# Altium footprint library QFP_Shrink_Rect_30P_Side_N.PcbLib: 12 footprints
Each footprint in its own frame and in the unit in brackets; x right, y up, seen from the top. Pads: shape width x height; smd on the part's side, far side on the other; paste and mask are expansions set on the pad; w line width, h text height; cw(c..) or ccw(c..) is an arc to the next point about the centre after c.
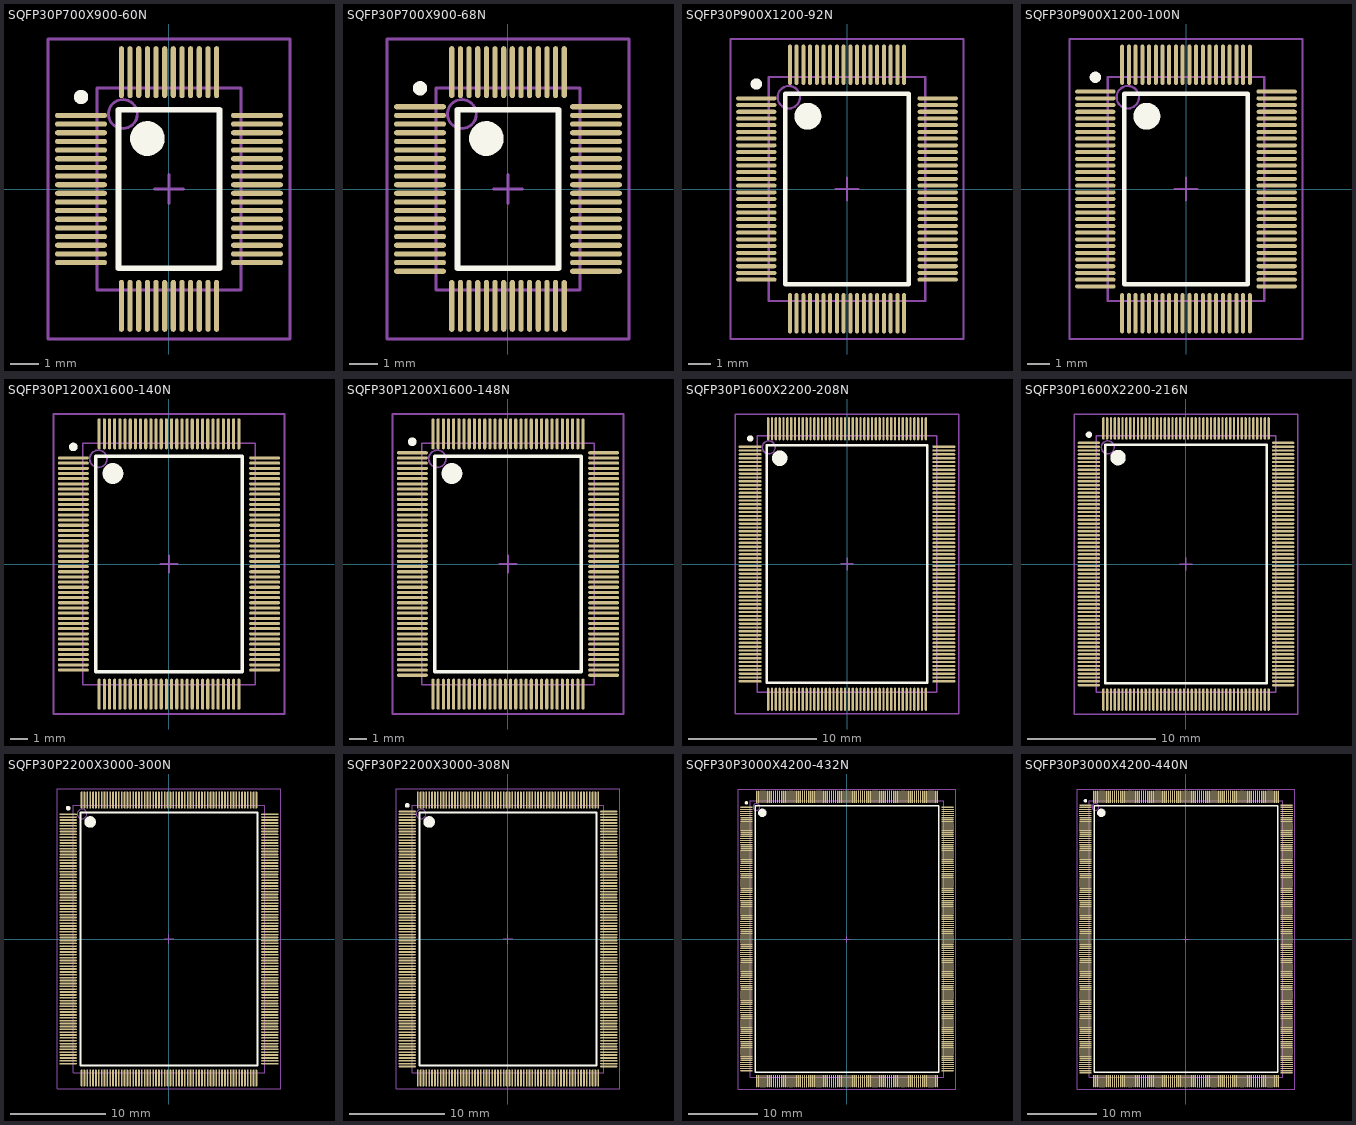
[diagram p0: the footprints below, top view; thin cyan lines are the x and y axes]

## SQFP30P700X900-60N [mm] "Shrink QFP, 60-Leads, Body 7x5 mm, Pitch 0.3mm, IPC Medium Density"
height 1.7
pads (60):
  oval 1.8x0.18 smd: 1(-3.05,2.55) 2(-3.05,2.25) 3(-3.05,1.95) 4(-3.05,1.65) 5(-3.05,1.35) 6(-3.05,1.05) 7(-3.05,0.75) 8(-3.05,0.45) 9(-3.05,0.15) 10(-3.05,-0.15) 11(-3.05,-0.45) 12(-3.05,-0.75) 13(-3.05,-1.05) 14(-3.05,-1.35) 15(-3.05,-1.65) 16(-3.05,-1.95) 17(-3.05,-2.25) 18(-3.05,-2.55) 31(3.05,-2.55) 32(3.05,-2.25) 33(3.05,-1.95) 34(3.05,-1.65) 35(3.05,-1.35) 36(3.05,-1.05) 37(3.05,-0.75) 38(3.05,-0.45) 39(3.05,-0.15) 40(3.05,0.15) 41(3.05,0.45) 42(3.05,0.75) 43(3.05,1.05) 44(3.05,1.35) 45(3.05,1.65) 46(3.05,1.95) 47(3.05,2.25) 48(3.05,2.55)
  oval 0.18x1.8 smd: 19(-1.65,-4.05) 20(-1.35,-4.05) 21(-1.05,-4.05) 22(-0.75,-4.05) 23(-0.45,-4.05) 24(-0.15,-4.05) 25(0.15,-4.05) 26(0.45,-4.05) 27(0.75,-4.05) 28(1.05,-4.05) 29(1.35,-4.05) 30(1.65,-4.05) 49(1.65,4.05) 50(1.35,4.05) 51(1.05,4.05) 52(0.75,4.05) 53(0.45,4.05) 54(0.15,4.05) 55(-0.15,4.05) 56(-0.45,4.05) 57(-0.75,4.05) 58(-1.05,4.05) 59(-1.35,4.05) 60(-1.65,4.05)
Top Overlay:
  circle w0.25: c-3.05,3.19 r0.125
  circle w0.6: c-0.75,1.75 r0.3
  lines w0.2: -1.75,-2.75 -1.75,2.75 1.75,2.75 1.75,-2.75 -1.75,-2.75
Mechanical 13:
  circle w0.1: c-1.6,2.6 r0.5
  lines w0.1: -2.5,-3.5 -2.5,3.5 2.5,3.5 2.5,-3.5 -2.5,-3.5
Mechanical 15:
  lines w0.1: -0.5,0 0.5,0 ; 0,-0.5 0,0.5 ; -4.2,-5.2 -4.2,5.2 4.2,5.2 4.2,-5.2 -4.2,-5.2
3D body: height 1.7, standoff 0, extent -2.5,-3.5 2.5,3.5

## SQFP30P700X900-68N [mm] "Shrink QFP, 68-Leads, Body 7x5 mm, Pitch 0.3mm, IPC Medium Density"
height 1.7
pads (68):
  oval 1.8x0.18 smd: 1(-3.05,2.85) 2(-3.05,2.55) 3(-3.05,2.25) 4(-3.05,1.95) 5(-3.05,1.65) 6(-3.05,1.35) 7(-3.05,1.05) 8(-3.05,0.75) 9(-3.05,0.45) 10(-3.05,0.15) 11(-3.05,-0.15) 12(-3.05,-0.45) 13(-3.05,-0.75) 14(-3.05,-1.05) 15(-3.05,-1.35) 16(-3.05,-1.65) 17(-3.05,-1.95) 18(-3.05,-2.25) 19(-3.05,-2.55) 20(-3.05,-2.85) 35(3.05,-2.85) 36(3.05,-2.55) 37(3.05,-2.25) 38(3.05,-1.95) 39(3.05,-1.65) 40(3.05,-1.35) 41(3.05,-1.05) 42(3.05,-0.75) 43(3.05,-0.45) 44(3.05,-0.15) 45(3.05,0.15) 46(3.05,0.45) 47(3.05,0.75) 48(3.05,1.05) 49(3.05,1.35) 50(3.05,1.65) 51(3.05,1.95) 52(3.05,2.25) 53(3.05,2.55) 54(3.05,2.85)
  oval 0.18x1.8 smd: 21(-1.95,-4.05) 22(-1.65,-4.05) 23(-1.35,-4.05) 24(-1.05,-4.05) 25(-0.75,-4.05) 26(-0.45,-4.05) 27(-0.15,-4.05) 28(0.15,-4.05) 29(0.45,-4.05) 30(0.75,-4.05) 31(1.05,-4.05) 32(1.35,-4.05) 33(1.65,-4.05) 34(1.95,-4.05) 55(1.95,4.05) 56(1.65,4.05) 57(1.35,4.05) 58(1.05,4.05) 59(0.75,4.05) 60(0.45,4.05) 61(0.15,4.05) 62(-0.15,4.05) 63(-0.45,4.05) 64(-0.75,4.05) 65(-1.05,4.05) 66(-1.35,4.05) 67(-1.65,4.05) 68(-1.95,4.05)
Top Overlay:
  circle w0.25: c-3.05,3.49 r0.125
  circle w0.6: c-0.75,1.75 r0.3
  lines w0.2: -1.75,-2.75 -1.75,2.75 1.75,2.75 1.75,-2.75 -1.75,-2.75
Mechanical 13:
  circle w0.1: c-1.6,2.6 r0.5
  lines w0.1: -2.5,-3.5 -2.5,3.5 2.5,3.5 2.5,-3.5 -2.5,-3.5
Mechanical 15:
  lines w0.1: -0.5,0 0.5,0 ; 0,-0.5 0,0.5 ; -4.2,-5.2 -4.2,5.2 4.2,5.2 4.2,-5.2 -4.2,-5.2
3D body: height 1.7, standoff 0, extent -2.5,-3.5 2.5,3.5

## SQFP30P900X1200-92N [mm] "Shrink QFP, 92-Leads, Body 10x7 mm, Pitch 0.3mm, IPC Medium Density"
height 2.2
pads (92):
  oval 1.8x0.18 smd: 1(-4.05,4.05) 2(-4.05,3.75) 3(-4.05,3.45) 4(-4.05,3.15) 5(-4.05,2.85) 6(-4.05,2.55) 7(-4.05,2.25) 8(-4.05,1.95) 9(-4.05,1.65) 10(-4.05,1.35) 11(-4.05,1.05) 12(-4.05,0.75) 13(-4.05,0.45) 14(-4.05,0.15) 15(-4.05,-0.15) 16(-4.05,-0.45) 17(-4.05,-0.75) 18(-4.05,-1.05) 19(-4.05,-1.35) 20(-4.05,-1.65) 21(-4.05,-1.95) 22(-4.05,-2.25) 23(-4.05,-2.55) 24(-4.05,-2.85) 25(-4.05,-3.15) 26(-4.05,-3.45) 27(-4.05,-3.75) 28(-4.05,-4.05) 47(4.05,-4.05) 48(4.05,-3.75) 49(4.05,-3.45) 50(4.05,-3.15) 51(4.05,-2.85) 52(4.05,-2.55) 53(4.05,-2.25) 54(4.05,-1.95) 55(4.05,-1.65) 56(4.05,-1.35) 57(4.05,-1.05) 58(4.05,-0.75) 59(4.05,-0.45) 60(4.05,-0.15) 61(4.05,0.15) 62(4.05,0.45) 63(4.05,0.75) 64(4.05,1.05) 65(4.05,1.35) 66(4.05,1.65) 67(4.05,1.95) 68(4.05,2.25) 69(4.05,2.55) 70(4.05,2.85) 71(4.05,3.15) 72(4.05,3.45) 73(4.05,3.75) 74(4.05,4.05)
  oval 0.18x1.8 smd: 29(-2.55,-5.55) 30(-2.25,-5.55) 31(-1.95,-5.55) 32(-1.65,-5.55) 33(-1.35,-5.55) 34(-1.05,-5.55) 35(-0.75,-5.55) 36(-0.45,-5.55) 37(-0.15,-5.55) 38(0.15,-5.55) 39(0.45,-5.55) 40(0.75,-5.55) 41(1.05,-5.55) 42(1.35,-5.55) 43(1.65,-5.55) 44(1.95,-5.55) 45(2.25,-5.55) 46(2.55,-5.55) 75(2.55,5.55) 76(2.25,5.55) 77(1.95,5.55) 78(1.65,5.55) 79(1.35,5.55) 80(1.05,5.55) 81(0.75,5.55) 82(0.45,5.55) 83(0.15,5.55) 84(-0.15,5.55) 85(-0.45,5.55) 86(-0.75,5.55) 87(-1.05,5.55) 88(-1.35,5.55) 89(-1.65,5.55) 90(-1.95,5.55) 91(-2.25,5.55) 92(-2.55,5.55)
Top Overlay:
  circle w0.25: c-4.05,4.69 r0.125
  circle w0.6: c-1.75,3.25 r0.3
  lines w0.2: -2.75,-4.25 -2.75,4.25 2.75,4.25 2.75,-4.25 -2.75,-4.25
Mechanical 13:
  circle w0.1: c-2.6,4.1 r0.5
  lines w0.1: -3.5,-5 -3.5,5 3.5,5 3.5,-5 -3.5,-5
Mechanical 15:
  lines w0.1: -0.5,0 0.5,0 ; 0,-0.5 0,0.5 ; -5.2,-6.7 -5.2,6.7 5.2,6.7 5.2,-6.7 -5.2,-6.7
3D body: height 2.2, standoff 0, extent -3.5,-5 3.5,5

## SQFP30P900X1200-100N [mm] "Shrink QFP, 100-Leads, Body 10x7 mm, Pitch 0.3mm, IPC Medium Density"
height 2.2
pads (100):
  oval 1.8x0.18 smd: 1(-4.05,4.35) 2(-4.05,4.05) 3(-4.05,3.75) 4(-4.05,3.45) 5(-4.05,3.15) 6(-4.05,2.85) 7(-4.05,2.55) 8(-4.05,2.25) 9(-4.05,1.95) 10(-4.05,1.65) 11(-4.05,1.35) 12(-4.05,1.05) 13(-4.05,0.75) 14(-4.05,0.45) 15(-4.05,0.15) 16(-4.05,-0.15) 17(-4.05,-0.45) 18(-4.05,-0.75) 19(-4.05,-1.05) 20(-4.05,-1.35) 21(-4.05,-1.65) 22(-4.05,-1.95) 23(-4.05,-2.25) 24(-4.05,-2.55) 25(-4.05,-2.85) 26(-4.05,-3.15) 27(-4.05,-3.45) 28(-4.05,-3.75) 29(-4.05,-4.05) 30(-4.05,-4.35) 51(4.05,-4.35) 52(4.05,-4.05) 53(4.05,-3.75) 54(4.05,-3.45) 55(4.05,-3.15) 56(4.05,-2.85) 57(4.05,-2.55) 58(4.05,-2.25) 59(4.05,-1.95) 60(4.05,-1.65) 61(4.05,-1.35) 62(4.05,-1.05) 63(4.05,-0.75) 64(4.05,-0.45) 65(4.05,-0.15) 66(4.05,0.15) 67(4.05,0.45) 68(4.05,0.75) 69(4.05,1.05) 70(4.05,1.35) 71(4.05,1.65) 72(4.05,1.95) 73(4.05,2.25) 74(4.05,2.55) 75(4.05,2.85) 76(4.05,3.15) 77(4.05,3.45) 78(4.05,3.75) 79(4.05,4.05) 80(4.05,4.35)
  oval 0.18x1.8 smd: 31(-2.85,-5.55) 32(-2.55,-5.55) 33(-2.25,-5.55) 34(-1.95,-5.55) 35(-1.65,-5.55) 36(-1.35,-5.55) 37(-1.05,-5.55) 38(-0.75,-5.55) 39(-0.45,-5.55) 40(-0.15,-5.55) 41(0.15,-5.55) 42(0.45,-5.55) 43(0.75,-5.55) 44(1.05,-5.55) 45(1.35,-5.55) 46(1.65,-5.55) 47(1.95,-5.55) 48(2.25,-5.55) 49(2.55,-5.55) 50(2.85,-5.55) 81(2.85,5.55) 82(2.55,5.55) 83(2.25,5.55) 84(1.95,5.55) 85(1.65,5.55) 86(1.35,5.55) 87(1.05,5.55) 88(0.75,5.55) 89(0.45,5.55) 90(0.15,5.55) 91(-0.15,5.55) 92(-0.45,5.55) 93(-0.75,5.55) 94(-1.05,5.55) 95(-1.35,5.55) 96(-1.65,5.55) 97(-1.95,5.55) 98(-2.25,5.55) 99(-2.55,5.55) 100(-2.85,5.55)
Top Overlay:
  circle w0.25: c-4.05,4.99 r0.125
  circle w0.6: c-1.75,3.25 r0.3
  lines w0.2: -2.75,-4.25 -2.75,4.25 2.75,4.25 2.75,-4.25 -2.75,-4.25
Mechanical 13:
  circle w0.1: c-2.6,4.1 r0.5
  lines w0.1: -3.5,-5 -3.5,5 3.5,5 3.5,-5 -3.5,-5
Mechanical 15:
  lines w0.1: -0.5,0 0.5,0 ; 0,-0.5 0,0.5 ; -5.2,-6.7 -5.2,6.7 5.2,6.7 5.2,-6.7 -5.2,-6.7
3D body: height 2.2, standoff 0, extent -3.5,-5 3.5,5

## SQFP30P1200X1600-140N [mm] "Shrink QFP, 140-Leads, Body 14x10 mm, Pitch 0.3mm, IPC Medium Density"
height 2.2
pads (140):
  oval 1.8x0.18 smd: 1(-5.55,6.15) 2(-5.55,5.85) 3(-5.55,5.55) 4(-5.55,5.25) 5(-5.55,4.95) 6(-5.55,4.65) 7(-5.55,4.35) 8(-5.55,4.05) 9(-5.55,3.75) 10(-5.55,3.45) 11(-5.55,3.15) 12(-5.55,2.85) 13(-5.55,2.55) 14(-5.55,2.25) 15(-5.55,1.95) 16(-5.55,1.65) 17(-5.55,1.35) 18(-5.55,1.05) 19(-5.55,0.75) 20(-5.55,0.45) 21(-5.55,0.15) 22(-5.55,-0.15) 23(-5.55,-0.45) 24(-5.55,-0.75) 25(-5.55,-1.05) 26(-5.55,-1.35) 27(-5.55,-1.65) 28(-5.55,-1.95) 29(-5.55,-2.25) 30(-5.55,-2.55) 31(-5.55,-2.85) 32(-5.55,-3.15) 33(-5.55,-3.45) 34(-5.55,-3.75) 35(-5.55,-4.05) 36(-5.55,-4.35) 37(-5.55,-4.65) 38(-5.55,-4.95) 39(-5.55,-5.25) 40(-5.55,-5.55) 41(-5.55,-5.85) 42(-5.55,-6.15) 71(5.55,-6.15) 72(5.55,-5.85) 73(5.55,-5.55) 74(5.55,-5.25) 75(5.55,-4.95) 76(5.55,-4.65) 77(5.55,-4.35) 78(5.55,-4.05) 79(5.55,-3.75) 80(5.55,-3.45) 81(5.55,-3.15) 82(5.55,-2.85) 83(5.55,-2.55) 84(5.55,-2.25) 85(5.55,-1.95) 86(5.55,-1.65) 87(5.55,-1.35) 88(5.55,-1.05) 89(5.55,-0.75) 90(5.55,-0.45) 91(5.55,-0.15) 92(5.55,0.15) 93(5.55,0.45) 94(5.55,0.75) 95(5.55,1.05) 96(5.55,1.35) 97(5.55,1.65) 98(5.55,1.95) 99(5.55,2.25) 100(5.55,2.55) 101(5.55,2.85) 102(5.55,3.15) 103(5.55,3.45) 104(5.55,3.75) 105(5.55,4.05) 106(5.55,4.35) 107(5.55,4.65) 108(5.55,4.95) 109(5.55,5.25) 110(5.55,5.55) 111(5.55,5.85) 112(5.55,6.15)
  oval 0.18x1.8 smd: 43(-4.05,-7.55) 44(-3.75,-7.55) 45(-3.45,-7.55) 46(-3.15,-7.55) 47(-2.85,-7.55) 48(-2.55,-7.55) 49(-2.25,-7.55) 50(-1.95,-7.55) 51(-1.65,-7.55) 52(-1.35,-7.55) 53(-1.05,-7.55) 54(-0.75,-7.55) 55(-0.45,-7.55) 56(-0.15,-7.55) 57(0.15,-7.55) 58(0.45,-7.55) 59(0.75,-7.55) 60(1.05,-7.55) 61(1.35,-7.55) 62(1.65,-7.55) 63(1.95,-7.55) 64(2.25,-7.55) 65(2.55,-7.55) 66(2.85,-7.55) 67(3.15,-7.55) 68(3.45,-7.55) 69(3.75,-7.55) 70(4.05,-7.55) 113(4.05,7.55) 114(3.75,7.55) 115(3.45,7.55) 116(3.15,7.55) 117(2.85,7.55) 118(2.55,7.55) 119(2.25,7.55) 120(1.95,7.55) 121(1.65,7.55) 122(1.35,7.55) 123(1.05,7.55) 124(0.75,7.55) 125(0.45,7.55) 126(0.15,7.55) 127(-0.15,7.55) 128(-0.45,7.55) 129(-0.75,7.55) 130(-1.05,7.55) 131(-1.35,7.55) 132(-1.65,7.55) 133(-1.95,7.55) 134(-2.25,7.55) 135(-2.55,7.55) 136(-2.85,7.55) 137(-3.15,7.55) 138(-3.45,7.55) 139(-3.75,7.55) 140(-4.05,7.55)
Top Overlay:
  circle w0.25: c-5.55,6.79 r0.125
  circle w0.6: c-3.25,5.25 r0.3
  lines w0.2: -4.25,-6.25 -4.25,6.25 4.25,6.25 4.25,-6.25 -4.25,-6.25
Mechanical 13:
  circle w0.1: c-4.1,6.1 r0.5
  lines w0.1: -5,-7 -5,7 5,7 5,-7 -5,-7
Mechanical 15:
  lines w0.1: -0.5,0 0.5,0 ; 0,-0.5 0,0.5 ; -6.7,-8.7 -6.7,8.7 6.7,8.7 6.7,-8.7 -6.7,-8.7
3D body: height 2.2, standoff 0, extent -5,-7 5,7

## SQFP30P1200X1600-148N [mm] "Shrink QFP, 148-Leads, Body 14x10 mm, Pitch 0.3mm, IPC Medium Density"
height 2.2
pads (148):
  oval 1.8x0.18 smd: 1(-5.55,6.45) 2(-5.55,6.15) 3(-5.55,5.85) 4(-5.55,5.55) 5(-5.55,5.25) 6(-5.55,4.95) 7(-5.55,4.65) 8(-5.55,4.35) 9(-5.55,4.05) 10(-5.55,3.75) 11(-5.55,3.45) 12(-5.55,3.15) 13(-5.55,2.85) 14(-5.55,2.55) 15(-5.55,2.25) 16(-5.55,1.95) 17(-5.55,1.65) 18(-5.55,1.35) 19(-5.55,1.05) 20(-5.55,0.75) 21(-5.55,0.45) 22(-5.55,0.15) 23(-5.55,-0.15) 24(-5.55,-0.45) 25(-5.55,-0.75) 26(-5.55,-1.05) 27(-5.55,-1.35) 28(-5.55,-1.65) 29(-5.55,-1.95) 30(-5.55,-2.25) 31(-5.55,-2.55) 32(-5.55,-2.85) 33(-5.55,-3.15) 34(-5.55,-3.45) 35(-5.55,-3.75) 36(-5.55,-4.05) 37(-5.55,-4.35) 38(-5.55,-4.65) 39(-5.55,-4.95) 40(-5.55,-5.25) 41(-5.55,-5.55) 42(-5.55,-5.85) 43(-5.55,-6.15) 44(-5.55,-6.45) 75(5.55,-6.45) 76(5.55,-6.15) 77(5.55,-5.85) 78(5.55,-5.55) 79(5.55,-5.25) 80(5.55,-4.95) 81(5.55,-4.65) 82(5.55,-4.35) 83(5.55,-4.05) 84(5.55,-3.75) 85(5.55,-3.45) 86(5.55,-3.15) 87(5.55,-2.85) 88(5.55,-2.55) 89(5.55,-2.25) 90(5.55,-1.95) 91(5.55,-1.65) 92(5.55,-1.35) 93(5.55,-1.05) 94(5.55,-0.75) 95(5.55,-0.45) 96(5.55,-0.15) 97(5.55,0.15) 98(5.55,0.45) 99(5.55,0.75) 100(5.55,1.05) 101(5.55,1.35) 102(5.55,1.65) 103(5.55,1.95) 104(5.55,2.25) 105(5.55,2.55) 106(5.55,2.85) 107(5.55,3.15) 108(5.55,3.45) 109(5.55,3.75) 110(5.55,4.05) 111(5.55,4.35) 112(5.55,4.65) 113(5.55,4.95) 114(5.55,5.25) 115(5.55,5.55) 116(5.55,5.85) 117(5.55,6.15) 118(5.55,6.45)
  oval 0.18x1.8 smd: 45(-4.35,-7.55) 46(-4.05,-7.55) 47(-3.75,-7.55) 48(-3.45,-7.55) 49(-3.15,-7.55) 50(-2.85,-7.55) 51(-2.55,-7.55) 52(-2.25,-7.55) 53(-1.95,-7.55) 54(-1.65,-7.55) 55(-1.35,-7.55) 56(-1.05,-7.55) 57(-0.75,-7.55) 58(-0.45,-7.55) 59(-0.15,-7.55) 60(0.15,-7.55) 61(0.45,-7.55) 62(0.75,-7.55) 63(1.05,-7.55) 64(1.35,-7.55) 65(1.65,-7.55) 66(1.95,-7.55) 67(2.25,-7.55) 68(2.55,-7.55) 69(2.85,-7.55) 70(3.15,-7.55) 71(3.45,-7.55) 72(3.75,-7.55) 73(4.05,-7.55) 74(4.35,-7.55) 119(4.35,7.55) 120(4.05,7.55) 121(3.75,7.55) 122(3.45,7.55) 123(3.15,7.55) 124(2.85,7.55) 125(2.55,7.55) 126(2.25,7.55) 127(1.95,7.55) 128(1.65,7.55) 129(1.35,7.55) 130(1.05,7.55) 131(0.75,7.55) 132(0.45,7.55) 133(0.15,7.55) 134(-0.15,7.55) 135(-0.45,7.55) 136(-0.75,7.55) 137(-1.05,7.55) 138(-1.35,7.55) 139(-1.65,7.55) 140(-1.95,7.55) 141(-2.25,7.55) 142(-2.55,7.55) 143(-2.85,7.55) 144(-3.15,7.55) 145(-3.45,7.55) 146(-3.75,7.55) 147(-4.05,7.55) 148(-4.35,7.55)
Top Overlay:
  circle w0.25: c-5.55,7.09 r0.125
  circle w0.6: c-3.25,5.25 r0.3
  lines w0.2: -4.25,-6.25 -4.25,6.25 4.25,6.25 4.25,-6.25 -4.25,-6.25
Mechanical 13:
  circle w0.1: c-4.1,6.1 r0.5
  lines w0.1: -5,-7 -5,7 5,7 5,-7 -5,-7
Mechanical 15:
  lines w0.1: -0.5,0 0.5,0 ; 0,-0.5 0,0.5 ; -6.7,-8.7 -6.7,8.7 6.7,8.7 6.7,-8.7 -6.7,-8.7
3D body: height 2.2, standoff 0, extent -5,-7 5,7

## SQFP30P1600X2200-208N [mm] "Shrink QFP, 208-Leads, Body 20x14 mm, Pitch 0.3mm, IPC Medium Density"
height 2.2
pads (208):
  oval 1.8x0.18 smd: 1(-7.55,9.15) 2(-7.55,8.85) 3(-7.55,8.55) 4(-7.55,8.25) 5(-7.55,7.95) 6(-7.55,7.65) 7(-7.55,7.35) 8(-7.55,7.05) 9(-7.55,6.75) 10(-7.55,6.45) 11(-7.55,6.15) 12(-7.55,5.85) 13(-7.55,5.55) 14(-7.55,5.25) 15(-7.55,4.95) 16(-7.55,4.65) 17(-7.55,4.35) 18(-7.55,4.05) 19(-7.55,3.75) 20(-7.55,3.45) 21(-7.55,3.15) 22(-7.55,2.85) 23(-7.55,2.55) 24(-7.55,2.25) 25(-7.55,1.95) 26(-7.55,1.65) 27(-7.55,1.35) 28(-7.55,1.05) 29(-7.55,0.75) 30(-7.55,0.45) 31(-7.55,0.15) 32(-7.55,-0.15) 33(-7.55,-0.45) 34(-7.55,-0.75) 35(-7.55,-1.05) 36(-7.55,-1.35) 37(-7.55,-1.65) 38(-7.55,-1.95) 39(-7.55,-2.25) 40(-7.55,-2.55) 41(-7.55,-2.85) 42(-7.55,-3.15) 43(-7.55,-3.45) 44(-7.55,-3.75) 45(-7.55,-4.05) 46(-7.55,-4.35) 47(-7.55,-4.65) 48(-7.55,-4.95) 49(-7.55,-5.25) 50(-7.55,-5.55) 51(-7.55,-5.85) 52(-7.55,-6.15) 53(-7.55,-6.45) 54(-7.55,-6.75) 55(-7.55,-7.05) 56(-7.55,-7.35) 57(-7.55,-7.65) 58(-7.55,-7.95) 59(-7.55,-8.25) 60(-7.55,-8.55) 61(-7.55,-8.85) 62(-7.55,-9.15) 105(7.55,-9.15) 106(7.55,-8.85) 107(7.55,-8.55) 108(7.55,-8.25) 109(7.55,-7.95) 110(7.55,-7.65) 111(7.55,-7.35) 112(7.55,-7.05) 113(7.55,-6.75) 114(7.55,-6.45) 115(7.55,-6.15) 116(7.55,-5.85) 117(7.55,-5.55) 118(7.55,-5.25) 119(7.55,-4.95) 120(7.55,-4.65) 121(7.55,-4.35) 122(7.55,-4.05) 123(7.55,-3.75) 124(7.55,-3.45) 125(7.55,-3.15) 126(7.55,-2.85) 127(7.55,-2.55) 128(7.55,-2.25) 129(7.55,-1.95) 130(7.55,-1.65) 131(7.55,-1.35) 132(7.55,-1.05) 133(7.55,-0.75) 134(7.55,-0.45) 135(7.55,-0.15) 136(7.55,0.15) 137(7.55,0.45) 138(7.55,0.75) 139(7.55,1.05) 140(7.55,1.35) 141(7.55,1.65) 142(7.55,1.95) 143(7.55,2.25) 144(7.55,2.55) 145(7.55,2.85) 146(7.55,3.15) 147(7.55,3.45) 148(7.55,3.75) 149(7.55,4.05) 150(7.55,4.35) 151(7.55,4.65) 152(7.55,4.95) 153(7.55,5.25) 154(7.55,5.55) 155(7.55,5.85) 156(7.55,6.15) 157(7.55,6.45) 158(7.55,6.75) 159(7.55,7.05) 160(7.55,7.35) 161(7.55,7.65) 162(7.55,7.95) 163(7.55,8.25) 164(7.55,8.55) 165(7.55,8.85) 166(7.55,9.15)
  oval 0.18x1.8 smd: 63(-6.15,-10.55) 64(-5.85,-10.55) 65(-5.55,-10.55) 66(-5.25,-10.55) 67(-4.95,-10.55) 68(-4.65,-10.55) 69(-4.35,-10.55) 70(-4.05,-10.55) 71(-3.75,-10.55) 72(-3.45,-10.55) 73(-3.15,-10.55) 74(-2.85,-10.55) 75(-2.55,-10.55) 76(-2.25,-10.55) 77(-1.95,-10.55) 78(-1.65,-10.55) 79(-1.35,-10.55) 80(-1.05,-10.55) 81(-0.75,-10.55) 82(-0.45,-10.55) 83(-0.15,-10.55) 84(0.15,-10.55) 85(0.45,-10.55) 86(0.75,-10.55) 87(1.05,-10.55) 88(1.35,-10.55) 89(1.65,-10.55) 90(1.95,-10.55) 91(2.25,-10.55) 92(2.55,-10.55) 93(2.85,-10.55) 94(3.15,-10.55) 95(3.45,-10.55) 96(3.75,-10.55) 97(4.05,-10.55) 98(4.35,-10.55) 99(4.65,-10.55) 100(4.95,-10.55) 101(5.25,-10.55) 102(5.55,-10.55) 103(5.85,-10.55) 104(6.15,-10.55) 167(6.15,10.55) 168(5.85,10.55) 169(5.55,10.55) 170(5.25,10.55) 171(4.95,10.55) 172(4.65,10.55) 173(4.35,10.55) 174(4.05,10.55) 175(3.75,10.55) 176(3.45,10.55) 177(3.15,10.55) 178(2.85,10.55) 179(2.55,10.55) 180(2.25,10.55) 181(1.95,10.55) 182(1.65,10.55) 183(1.35,10.55) 184(1.05,10.55) 185(0.75,10.55) 186(0.45,10.55) 187(0.15,10.55) 188(-0.15,10.55) 189(-0.45,10.55) 190(-0.75,10.55) 191(-1.05,10.55) 192(-1.35,10.55) 193(-1.65,10.55) 194(-1.95,10.55) 195(-2.25,10.55) 196(-2.55,10.55) 197(-2.85,10.55) 198(-3.15,10.55) 199(-3.45,10.55) 200(-3.75,10.55) 201(-4.05,10.55) 202(-4.35,10.55) 203(-4.65,10.55) 204(-4.95,10.55) 205(-5.25,10.55) 206(-5.55,10.55) 207(-5.85,10.55) 208(-6.15,10.55)
Top Overlay:
  circle w0.25: c-7.55,9.79 r0.125
  circle w0.6: c-5.25,8.25 r0.3
  lines w0.2: -6.25,-9.25 -6.25,9.25 6.25,9.25 6.25,-9.25 -6.25,-9.25
Mechanical 13:
  circle w0.1: c-6.1,9.1 r0.5
  lines w0.1: -7,-10 -7,10 7,10 7,-10 -7,-10
Mechanical 15:
  lines w0.1: -0.5,0 0.5,0 ; 0,-0.5 0,0.5 ; -8.7,-11.7 -8.7,11.7 8.7,11.7 8.7,-11.7 -8.7,-11.7
3D body: height 2.2, standoff 0, extent -7,-10 7,10

## SQFP30P1600X2200-216N [mm] "Shrink QFP, 216-Leads, Body 20x14 mm, Pitch 0.3mm, IPC Medium Density"
height 2.2
pads (216):
  oval 1.75x0.18 smd: 1(-7.575,9.45) 2(-7.575,9.15) 3(-7.575,8.85) 4(-7.575,8.55) 5(-7.575,8.25) 6(-7.575,7.95) 7(-7.575,7.65) 8(-7.575,7.35) 9(-7.575,7.05) 10(-7.575,6.75) 11(-7.575,6.45) 12(-7.575,6.15) 13(-7.575,5.85) 14(-7.575,5.55) 15(-7.575,5.25) 16(-7.575,4.95) 17(-7.575,4.65) 18(-7.575,4.35) 19(-7.575,4.05) 20(-7.575,3.75) 21(-7.575,3.45) 22(-7.575,3.15) 23(-7.575,2.85) 24(-7.575,2.55) 25(-7.575,2.25) 26(-7.575,1.95) 27(-7.575,1.65) 28(-7.575,1.35) 29(-7.575,1.05) 30(-7.575,0.75) 31(-7.575,0.45) 32(-7.575,0.15) 33(-7.575,-0.15) 34(-7.575,-0.45) 35(-7.575,-0.75) 36(-7.575,-1.05) 37(-7.575,-1.35) 38(-7.575,-1.65) 39(-7.575,-1.95) 40(-7.575,-2.25) 41(-7.575,-2.55) 42(-7.575,-2.85) 43(-7.575,-3.15) 44(-7.575,-3.45) 45(-7.575,-3.75) 46(-7.575,-4.05) 47(-7.575,-4.35) 48(-7.575,-4.65) 49(-7.575,-4.95) 50(-7.575,-5.25) 51(-7.575,-5.55) 52(-7.575,-5.85) 53(-7.575,-6.15) 54(-7.575,-6.45) 55(-7.575,-6.75) 56(-7.575,-7.05) 57(-7.575,-7.35) 58(-7.575,-7.65) 59(-7.575,-7.95) 60(-7.575,-8.25) 61(-7.575,-8.55) 62(-7.575,-8.85) 63(-7.575,-9.15) 64(-7.575,-9.45) 109(7.575,-9.45) 110(7.575,-9.15) 111(7.575,-8.85) 112(7.575,-8.55) 113(7.575,-8.25) 114(7.575,-7.95) 115(7.575,-7.65) 116(7.575,-7.35) 117(7.575,-7.05) 118(7.575,-6.75) 119(7.575,-6.45) 120(7.575,-6.15) 121(7.575,-5.85) 122(7.575,-5.55) 123(7.575,-5.25) 124(7.575,-4.95) 125(7.575,-4.65) 126(7.575,-4.35) 127(7.575,-4.05) 128(7.575,-3.75) 129(7.575,-3.45) 130(7.575,-3.15) 131(7.575,-2.85) 132(7.575,-2.55) 133(7.575,-2.25) 134(7.575,-1.95) 135(7.575,-1.65) 136(7.575,-1.35) 137(7.575,-1.05) 138(7.575,-0.75) 139(7.575,-0.45) 140(7.575,-0.15) 141(7.575,0.15) 142(7.575,0.45) 143(7.575,0.75) 144(7.575,1.05) 145(7.575,1.35) 146(7.575,1.65) 147(7.575,1.95) 148(7.575,2.25) 149(7.575,2.55) 150(7.575,2.85) 151(7.575,3.15) 152(7.575,3.45) 153(7.575,3.75) 154(7.575,4.05) 155(7.575,4.35) 156(7.575,4.65) 157(7.575,4.95) 158(7.575,5.25) 159(7.575,5.55) 160(7.575,5.85) 161(7.575,6.15) 162(7.575,6.45) 163(7.575,6.75) 164(7.575,7.05) 165(7.575,7.35) 166(7.575,7.65) 167(7.575,7.95) 168(7.575,8.25) 169(7.575,8.55) 170(7.575,8.85) 171(7.575,9.15) 172(7.575,9.45)
  oval 0.18x1.75 smd: 65(-6.45,-10.575) 66(-6.15,-10.575) 67(-5.85,-10.575) 68(-5.55,-10.575) 69(-5.25,-10.575) 70(-4.95,-10.575) 71(-4.65,-10.575) 72(-4.35,-10.575) 73(-4.05,-10.575) 74(-3.75,-10.575) 75(-3.45,-10.575) 76(-3.15,-10.575) 77(-2.85,-10.575) 78(-2.55,-10.575) 79(-2.25,-10.575) 80(-1.95,-10.575) 81(-1.65,-10.575) 82(-1.35,-10.575) 83(-1.05,-10.575) 84(-0.75,-10.575) 85(-0.45,-10.575) 86(-0.15,-10.575) 87(0.15,-10.575) 88(0.45,-10.575) 89(0.75,-10.575) 90(1.05,-10.575) 91(1.35,-10.575) 92(1.65,-10.575) 93(1.95,-10.575) 94(2.25,-10.575) 95(2.55,-10.575) 96(2.85,-10.575) 97(3.15,-10.575) 98(3.45,-10.575) 99(3.75,-10.575) 100(4.05,-10.575) 101(4.35,-10.575) 102(4.65,-10.575) 103(4.95,-10.575) 104(5.25,-10.575) 105(5.55,-10.575) 106(5.85,-10.575) 107(6.15,-10.575) 108(6.45,-10.575) 173(6.45,10.575) 174(6.15,10.575) 175(5.85,10.575) 176(5.55,10.575) 177(5.25,10.575) 178(4.95,10.575) 179(4.65,10.575) 180(4.35,10.575) 181(4.05,10.575) 182(3.75,10.575) 183(3.45,10.575) 184(3.15,10.575) 185(2.85,10.575) 186(2.55,10.575) 187(2.25,10.575) 188(1.95,10.575) 189(1.65,10.575) 190(1.35,10.575) 191(1.05,10.575) 192(0.75,10.575) 193(0.45,10.575) 194(0.15,10.575) 195(-0.15,10.575) 196(-0.45,10.575) 197(-0.75,10.575) 198(-1.05,10.575) 199(-1.35,10.575) 200(-1.65,10.575) 201(-1.95,10.575) 202(-2.25,10.575) 203(-2.55,10.575) 204(-2.85,10.575) 205(-3.15,10.575) 206(-3.45,10.575) 207(-3.75,10.575) 208(-4.05,10.575) 209(-4.35,10.575) 210(-4.65,10.575) 211(-4.95,10.575) 212(-5.25,10.575) 213(-5.55,10.575) 214(-5.85,10.575) 215(-6.15,10.575) 216(-6.45,10.575)
Top Overlay:
  circle w0.25: c-7.575,10.09 r0.125
  circle w0.6: c-5.3,8.3 r0.3
  lines w0.2: -6.3,-9.3 -6.3,9.3 6.3,9.3 6.3,-9.3 -6.3,-9.3
Mechanical 13:
  circle w0.1: c-6.1,9.1 r0.5
  lines w0.1: -7,-10 -7,10 7,10 7,-10 -7,-10
Mechanical 15:
  lines w0.1: -0.5,0 0.5,0 ; 0,-0.5 0,0.5 ; -8.7,-11.7 -8.7,11.7 8.7,11.7 8.7,-11.7 -8.7,-11.7
3D body: height 2.2, standoff 0, extent -7,-10 7,10

## SQFP30P2200X3000-300N [mm] "Shrink QFP, 300-Leads, Body 28x20 mm, Pitch 0.3mm, IPC Medium Density"
height 3.75
pads (300):
  oval 1.8x0.18 smd: 1(-10.55,13.05) 2(-10.55,12.75) 3(-10.55,12.45) 4(-10.55,12.15) 5(-10.55,11.85) 6(-10.55,11.55) 7(-10.55,11.25) 8(-10.55,10.95) 9(-10.55,10.65) 10(-10.55,10.35) 11(-10.55,10.05) 12(-10.55,9.75) 13(-10.55,9.45) 14(-10.55,9.15) 15(-10.55,8.85) 16(-10.55,8.55) 17(-10.55,8.25) 18(-10.55,7.95) 19(-10.55,7.65) 20(-10.55,7.35) 21(-10.55,7.05) 22(-10.55,6.75) 23(-10.55,6.45) 24(-10.55,6.15) 25(-10.55,5.85) 26(-10.55,5.55) 27(-10.55,5.25) 28(-10.55,4.95) 29(-10.55,4.65) 30(-10.55,4.35) 31(-10.55,4.05) 32(-10.55,3.75) 33(-10.55,3.45) 34(-10.55,3.15) 35(-10.55,2.85) 36(-10.55,2.55) 37(-10.55,2.25) 38(-10.55,1.95) 39(-10.55,1.65) 40(-10.55,1.35) 41(-10.55,1.05) 42(-10.55,0.75) 43(-10.55,0.45) 44(-10.55,0.15) 45(-10.55,-0.15) 46(-10.55,-0.45) 47(-10.55,-0.75) 48(-10.55,-1.05) 49(-10.55,-1.35) 50(-10.55,-1.65) 51(-10.55,-1.95) 52(-10.55,-2.25) 53(-10.55,-2.55) 54(-10.55,-2.85) 55(-10.55,-3.15) 56(-10.55,-3.45) 57(-10.55,-3.75) 58(-10.55,-4.05) 59(-10.55,-4.35) 60(-10.55,-4.65) 61(-10.55,-4.95) 62(-10.55,-5.25) 63(-10.55,-5.55) 64(-10.55,-5.85) 65(-10.55,-6.15) 66(-10.55,-6.45) 67(-10.55,-6.75) 68(-10.55,-7.05) 69(-10.55,-7.35) 70(-10.55,-7.65) 71(-10.55,-7.95) 72(-10.55,-8.25) 73(-10.55,-8.55) 74(-10.55,-8.85) 75(-10.55,-9.15) 76(-10.55,-9.45) 77(-10.55,-9.75) 78(-10.55,-10.05) 79(-10.55,-10.35) 80(-10.55,-10.65) 81(-10.55,-10.95) 82(-10.55,-11.25) 83(-10.55,-11.55) 84(-10.55,-11.85) 85(-10.55,-12.15) 86(-10.55,-12.45) 87(-10.55,-12.75) 88(-10.55,-13.05) 151(10.55,-13.05) 152(10.55,-12.75) 153(10.55,-12.45) 154(10.55,-12.15) 155(10.55,-11.85) 156(10.55,-11.55) 157(10.55,-11.25) 158(10.55,-10.95) 159(10.55,-10.65) 160(10.55,-10.35) 161(10.55,-10.05) 162(10.55,-9.75) 163(10.55,-9.45) 164(10.55,-9.15) 165(10.55,-8.85) 166(10.55,-8.55) 167(10.55,-8.25) 168(10.55,-7.95) 169(10.55,-7.65) 170(10.55,-7.35) 171(10.55,-7.05) 172(10.55,-6.75) 173(10.55,-6.45) 174(10.55,-6.15) 175(10.55,-5.85) 176(10.55,-5.55) 177(10.55,-5.25) 178(10.55,-4.95) 179(10.55,-4.65) 180(10.55,-4.35) 181(10.55,-4.05) 182(10.55,-3.75) 183(10.55,-3.45) 184(10.55,-3.15) 185(10.55,-2.85) 186(10.55,-2.55) 187(10.55,-2.25) 188(10.55,-1.95) 189(10.55,-1.65) 190(10.55,-1.35) 191(10.55,-1.05) 192(10.55,-0.75) 193(10.55,-0.45) 194(10.55,-0.15) 195(10.55,0.15) 196(10.55,0.45) 197(10.55,0.75) 198(10.55,1.05) 199(10.55,1.35) 200(10.55,1.65) 201(10.55,1.95) 202(10.55,2.25) 203(10.55,2.55) 204(10.55,2.85) 205(10.55,3.15) 206(10.55,3.45) 207(10.55,3.75) 208(10.55,4.05) 209(10.55,4.35) 210(10.55,4.65) 211(10.55,4.95) 212(10.55,5.25) 213(10.55,5.55) 214(10.55,5.85) 215(10.55,6.15) 216(10.55,6.45) 217(10.55,6.75) 218(10.55,7.05) 219(10.55,7.35) 220(10.55,7.65) 221(10.55,7.95) 222(10.55,8.25) 223(10.55,8.55) 224(10.55,8.85) 225(10.55,9.15) 226(10.55,9.45) 227(10.55,9.75) 228(10.55,10.05) 229(10.55,10.35) 230(10.55,10.65) 231(10.55,10.95) 232(10.55,11.25) 233(10.55,11.55) 234(10.55,11.85) 235(10.55,12.15) 236(10.55,12.45) 237(10.55,12.75) 238(10.55,13.05)
  oval 0.18x1.8 smd: 89(-9.15,-14.55) 90(-8.85,-14.55) 91(-8.55,-14.55) 92(-8.25,-14.55) 93(-7.95,-14.55) 94(-7.65,-14.55) 95(-7.35,-14.55) 96(-7.05,-14.55) 97(-6.75,-14.55) 98(-6.45,-14.55) 99(-6.15,-14.55) 100(-5.85,-14.55) 101(-5.55,-14.55) 102(-5.25,-14.55) 103(-4.95,-14.55) 104(-4.65,-14.55) 105(-4.35,-14.55) 106(-4.05,-14.55) 107(-3.75,-14.55) 108(-3.45,-14.55) 109(-3.15,-14.55) 110(-2.85,-14.55) 111(-2.55,-14.55) 112(-2.25,-14.55) 113(-1.95,-14.55) 114(-1.65,-14.55) 115(-1.35,-14.55) 116(-1.05,-14.55) 117(-0.75,-14.55) 118(-0.45,-14.55) 119(-0.15,-14.55) 120(0.15,-14.55) 121(0.45,-14.55) 122(0.75,-14.55) 123(1.05,-14.55) 124(1.35,-14.55) 125(1.65,-14.55) 126(1.95,-14.55) 127(2.25,-14.55) 128(2.55,-14.55) 129(2.85,-14.55) 130(3.15,-14.55) 131(3.45,-14.55) 132(3.75,-14.55) 133(4.05,-14.55) 134(4.35,-14.55) 135(4.65,-14.55) 136(4.95,-14.55) 137(5.25,-14.55) 138(5.55,-14.55) 139(5.85,-14.55) 140(6.15,-14.55) 141(6.45,-14.55) 142(6.75,-14.55) 143(7.05,-14.55) 144(7.35,-14.55) 145(7.65,-14.55) 146(7.95,-14.55) 147(8.25,-14.55) 148(8.55,-14.55) 149(8.85,-14.55) 150(9.15,-14.55) 239(9.15,14.55) 240(8.85,14.55) 241(8.55,14.55) 242(8.25,14.55) 243(7.95,14.55) 244(7.65,14.55) 245(7.35,14.55) 246(7.05,14.55) 247(6.75,14.55) 248(6.45,14.55) 249(6.15,14.55) 250(5.85,14.55) 251(5.55,14.55) 252(5.25,14.55) 253(4.95,14.55) 254(4.65,14.55) 255(4.35,14.55) 256(4.05,14.55) 257(3.75,14.55) 258(3.45,14.55) 259(3.15,14.55) 260(2.85,14.55) 261(2.55,14.55) 262(2.25,14.55) 263(1.95,14.55) 264(1.65,14.55) 265(1.35,14.55) 266(1.05,14.55) 267(0.75,14.55) 268(0.45,14.55) 269(0.15,14.55) 270(-0.15,14.55) 271(-0.45,14.55) 272(-0.75,14.55) 273(-1.05,14.55) 274(-1.35,14.55) 275(-1.65,14.55) 276(-1.95,14.55) 277(-2.25,14.55) 278(-2.55,14.55) 279(-2.85,14.55) 280(-3.15,14.55) 281(-3.45,14.55) 282(-3.75,14.55) 283(-4.05,14.55) 284(-4.35,14.55) 285(-4.65,14.55) 286(-4.95,14.55) 287(-5.25,14.55) 288(-5.55,14.55) 289(-5.85,14.55) 290(-6.15,14.55) 291(-6.45,14.55) 292(-6.75,14.55) 293(-7.05,14.55) 294(-7.35,14.55) 295(-7.65,14.55) 296(-7.95,14.55) 297(-8.25,14.55) 298(-8.55,14.55) 299(-8.85,14.55) 300(-9.15,14.55)
Top Overlay:
  circle w0.25: c-10.55,13.69 r0.125
  circle w0.6: c-8.25,12.25 r0.3
  lines w0.2: -9.25,-13.25 -9.25,13.25 9.25,13.25 9.25,-13.25 -9.25,-13.25
Mechanical 13:
  circle w0.1: c-9.1,13.1 r0.5
  lines w0.1: -10,-14 -10,14 10,14 10,-14 -10,-14
Mechanical 15:
  lines w0.1: -0.5,0 0.5,0 ; 0,-0.5 0,0.5 ; -11.7,-15.7 -11.7,15.7 11.7,15.7 11.7,-15.7 -11.7,-15.7
3D body: height 3.75, standoff 0, extent -10,-14 10,14

## SQFP30P2200X3000-308N [mm] "Shrink QFP, 308-Leads, Body 28x20 mm, Pitch 0.3mm, IPC Medium Density"
height 3.75
pads (308):
  oval 1.8x0.18 smd: 1(-10.55,13.35) 2(-10.55,13.05) 3(-10.55,12.75) 4(-10.55,12.45) 5(-10.55,12.15) 6(-10.55,11.85) 7(-10.55,11.55) 8(-10.55,11.25) 9(-10.55,10.95) 10(-10.55,10.65) 11(-10.55,10.35) 12(-10.55,10.05) 13(-10.55,9.75) 14(-10.55,9.45) 15(-10.55,9.15) 16(-10.55,8.85) 17(-10.55,8.55) 18(-10.55,8.25) 19(-10.55,7.95) 20(-10.55,7.65) 21(-10.55,7.35) 22(-10.55,7.05) 23(-10.55,6.75) 24(-10.55,6.45) 25(-10.55,6.15) 26(-10.55,5.85) 27(-10.55,5.55) 28(-10.55,5.25) 29(-10.55,4.95) 30(-10.55,4.65) 31(-10.55,4.35) 32(-10.55,4.05) 33(-10.55,3.75) 34(-10.55,3.45) 35(-10.55,3.15) 36(-10.55,2.85) 37(-10.55,2.55) 38(-10.55,2.25) 39(-10.55,1.95) 40(-10.55,1.65) 41(-10.55,1.35) 42(-10.55,1.05) 43(-10.55,0.75) 44(-10.55,0.45) 45(-10.55,0.15) 46(-10.55,-0.15) 47(-10.55,-0.45) 48(-10.55,-0.75) 49(-10.55,-1.05) 50(-10.55,-1.35) 51(-10.55,-1.65) 52(-10.55,-1.95) 53(-10.55,-2.25) 54(-10.55,-2.55) 55(-10.55,-2.85) 56(-10.55,-3.15) 57(-10.55,-3.45) 58(-10.55,-3.75) 59(-10.55,-4.05) 60(-10.55,-4.35) 61(-10.55,-4.65) 62(-10.55,-4.95) 63(-10.55,-5.25) 64(-10.55,-5.55) 65(-10.55,-5.85) 66(-10.55,-6.15) 67(-10.55,-6.45) 68(-10.55,-6.75) 69(-10.55,-7.05) 70(-10.55,-7.35) 71(-10.55,-7.65) 72(-10.55,-7.95) 73(-10.55,-8.25) 74(-10.55,-8.55) 75(-10.55,-8.85) 76(-10.55,-9.15) 77(-10.55,-9.45) 78(-10.55,-9.75) 79(-10.55,-10.05) 80(-10.55,-10.35) 81(-10.55,-10.65) 82(-10.55,-10.95) 83(-10.55,-11.25) 84(-10.55,-11.55) 85(-10.55,-11.85) 86(-10.55,-12.15) 87(-10.55,-12.45) 88(-10.55,-12.75) 89(-10.55,-13.05) 90(-10.55,-13.35) 155(10.55,-13.35) 156(10.55,-13.05) 157(10.55,-12.75) 158(10.55,-12.45) 159(10.55,-12.15) 160(10.55,-11.85) 161(10.55,-11.55) 162(10.55,-11.25) 163(10.55,-10.95) 164(10.55,-10.65) 165(10.55,-10.35) 166(10.55,-10.05) 167(10.55,-9.75) 168(10.55,-9.45) 169(10.55,-9.15) 170(10.55,-8.85) 171(10.55,-8.55) 172(10.55,-8.25) 173(10.55,-7.95) 174(10.55,-7.65) 175(10.55,-7.35) 176(10.55,-7.05) 177(10.55,-6.75) 178(10.55,-6.45) 179(10.55,-6.15) 180(10.55,-5.85) 181(10.55,-5.55) 182(10.55,-5.25) 183(10.55,-4.95) 184(10.55,-4.65) 185(10.55,-4.35) 186(10.55,-4.05) 187(10.55,-3.75) 188(10.55,-3.45) 189(10.55,-3.15) 190(10.55,-2.85) 191(10.55,-2.55) 192(10.55,-2.25) 193(10.55,-1.95) 194(10.55,-1.65) 195(10.55,-1.35) 196(10.55,-1.05) 197(10.55,-0.75) 198(10.55,-0.45) 199(10.55,-0.15) 200(10.55,0.15) 201(10.55,0.45) 202(10.55,0.75) 203(10.55,1.05) 204(10.55,1.35) 205(10.55,1.65) 206(10.55,1.95) 207(10.55,2.25) 208(10.55,2.55) 209(10.55,2.85) 210(10.55,3.15) 211(10.55,3.45) 212(10.55,3.75) 213(10.55,4.05) 214(10.55,4.35) 215(10.55,4.65) 216(10.55,4.95) 217(10.55,5.25) 218(10.55,5.55) 219(10.55,5.85) 220(10.55,6.15) 221(10.55,6.45) 222(10.55,6.75) 223(10.55,7.05) 224(10.55,7.35) 225(10.55,7.65) 226(10.55,7.95) 227(10.55,8.25) 228(10.55,8.55) 229(10.55,8.85) 230(10.55,9.15) 231(10.55,9.45) 232(10.55,9.75) 233(10.55,10.05) 234(10.55,10.35) 235(10.55,10.65) 236(10.55,10.95) 237(10.55,11.25) 238(10.55,11.55) 239(10.55,11.85) 240(10.55,12.15) 241(10.55,12.45) 242(10.55,12.75) 243(10.55,13.05) 244(10.55,13.35)
  oval 0.18x1.8 smd: 91(-9.45,-14.55) 92(-9.15,-14.55) 93(-8.85,-14.55) 94(-8.55,-14.55) 95(-8.25,-14.55) 96(-7.95,-14.55) 97(-7.65,-14.55) 98(-7.35,-14.55) 99(-7.05,-14.55) 100(-6.75,-14.55) 101(-6.45,-14.55) 102(-6.15,-14.55) 103(-5.85,-14.55) 104(-5.55,-14.55) 105(-5.25,-14.55) 106(-4.95,-14.55) 107(-4.65,-14.55) 108(-4.35,-14.55) 109(-4.05,-14.55) 110(-3.75,-14.55) 111(-3.45,-14.55) 112(-3.15,-14.55) 113(-2.85,-14.55) 114(-2.55,-14.55) 115(-2.25,-14.55) 116(-1.95,-14.55) 117(-1.65,-14.55) 118(-1.35,-14.55) 119(-1.05,-14.55) 120(-0.75,-14.55) 121(-0.45,-14.55) 122(-0.15,-14.55) 123(0.15,-14.55) 124(0.45,-14.55) 125(0.75,-14.55) 126(1.05,-14.55) 127(1.35,-14.55) 128(1.65,-14.55) 129(1.95,-14.55) 130(2.25,-14.55) 131(2.55,-14.55) 132(2.85,-14.55) 133(3.15,-14.55) 134(3.45,-14.55) 135(3.75,-14.55) 136(4.05,-14.55) 137(4.35,-14.55) 138(4.65,-14.55) 139(4.95,-14.55) 140(5.25,-14.55) 141(5.55,-14.55) 142(5.85,-14.55) 143(6.15,-14.55) 144(6.45,-14.55) 145(6.75,-14.55) 146(7.05,-14.55) 147(7.35,-14.55) 148(7.65,-14.55) 149(7.95,-14.55) 150(8.25,-14.55) 151(8.55,-14.55) 152(8.85,-14.55) 153(9.15,-14.55) 154(9.45,-14.55) 245(9.45,14.55) 246(9.15,14.55) 247(8.85,14.55) 248(8.55,14.55) 249(8.25,14.55) 250(7.95,14.55) 251(7.65,14.55) 252(7.35,14.55) 253(7.05,14.55) 254(6.75,14.55) 255(6.45,14.55) 256(6.15,14.55) 257(5.85,14.55) 258(5.55,14.55) 259(5.25,14.55) 260(4.95,14.55) 261(4.65,14.55) 262(4.35,14.55) 263(4.05,14.55) 264(3.75,14.55) 265(3.45,14.55) 266(3.15,14.55) 267(2.85,14.55) 268(2.55,14.55) 269(2.25,14.55) 270(1.95,14.55) 271(1.65,14.55) 272(1.35,14.55) 273(1.05,14.55) 274(0.75,14.55) 275(0.45,14.55) 276(0.15,14.55) 277(-0.15,14.55) 278(-0.45,14.55) 279(-0.75,14.55) 280(-1.05,14.55) 281(-1.35,14.55) 282(-1.65,14.55) 283(-1.95,14.55) 284(-2.25,14.55) 285(-2.55,14.55) 286(-2.85,14.55) 287(-3.15,14.55) 288(-3.45,14.55) 289(-3.75,14.55) 290(-4.05,14.55) 291(-4.35,14.55) 292(-4.65,14.55) 293(-4.95,14.55) 294(-5.25,14.55) 295(-5.55,14.55) 296(-5.85,14.55) 297(-6.15,14.55) 298(-6.45,14.55) 299(-6.75,14.55) 300(-7.05,14.55) 301(-7.35,14.55) 302(-7.65,14.55) 303(-7.95,14.55) 304(-8.25,14.55) 305(-8.55,14.55) 306(-8.85,14.55) 307(-9.15,14.55) 308(-9.45,14.55)
Top Overlay:
  circle w0.25: c-10.55,13.99 r0.125
  circle w0.6: c-8.25,12.25 r0.3
  lines w0.2: -9.25,-13.25 -9.25,13.25 9.25,13.25 9.25,-13.25 -9.25,-13.25
Mechanical 13:
  circle w0.1: c-9.1,13.1 r0.5
  lines w0.1: -10,-14 -10,14 10,14 10,-14 -10,-14
Mechanical 15:
  lines w0.1: -0.5,0 0.5,0 ; 0,-0.5 0,0.5 ; -11.7,-15.7 -11.7,15.7 11.7,15.7 11.7,-15.7 -11.7,-15.7
3D body: height 3.75, standoff 0, extent -10,-14 10,14

## SQFP30P3000X4200-432N [mm] "Shrink QFP, 432-Leads, Body 40x28 mm, Pitch 0.3mm, IPC Medium Density"
height 4.2
pads (432):
  oval 1.8x0.18 smd: 1(-14.55,19.05) 2(-14.55,18.75) 3(-14.55,18.45) 4(-14.55,18.15) 5(-14.55,17.85) 6(-14.55,17.55) 7(-14.55,17.25) 8(-14.55,16.95) 9(-14.55,16.65) 10(-14.55,16.35) 11(-14.55,16.05) 12(-14.55,15.75) 13(-14.55,15.45) 14(-14.55,15.15) 15(-14.55,14.85) 16(-14.55,14.55) 17(-14.55,14.25) 18(-14.55,13.95) 19(-14.55,13.65) 20(-14.55,13.35) 21(-14.55,13.05) 22(-14.55,12.75) 23(-14.55,12.45) 24(-14.55,12.15) 25(-14.55,11.85) 26(-14.55,11.55) 27(-14.55,11.25) 28(-14.55,10.95) 29(-14.55,10.65) 30(-14.55,10.35) 31(-14.55,10.05) 32(-14.55,9.75) 33(-14.55,9.45) 34(-14.55,9.15) 35(-14.55,8.85) 36(-14.55,8.55) 37(-14.55,8.25) 38(-14.55,7.95) 39(-14.55,7.65) 40(-14.55,7.35) 41(-14.55,7.05) 42(-14.55,6.75) 43(-14.55,6.45) 44(-14.55,6.15) 45(-14.55,5.85) 46(-14.55,5.55) 47(-14.55,5.25) 48(-14.55,4.95) 49(-14.55,4.65) 50(-14.55,4.35) 51(-14.55,4.05) 52(-14.55,3.75) 53(-14.55,3.45) 54(-14.55,3.15) 55(-14.55,2.85) 56(-14.55,2.55) 57(-14.55,2.25) 58(-14.55,1.95) 59(-14.55,1.65) 60(-14.55,1.35) 61(-14.55,1.05) 62(-14.55,0.75) 63(-14.55,0.45) 64(-14.55,0.15) 65(-14.55,-0.15) 66(-14.55,-0.45) 67(-14.55,-0.75) 68(-14.55,-1.05) 69(-14.55,-1.35) 70(-14.55,-1.65) 71(-14.55,-1.95) 72(-14.55,-2.25) 73(-14.55,-2.55) 74(-14.55,-2.85) 75(-14.55,-3.15) 76(-14.55,-3.45) 77(-14.55,-3.75) 78(-14.55,-4.05) 79(-14.55,-4.35) 80(-14.55,-4.65) 81(-14.55,-4.95) 82(-14.55,-5.25) 83(-14.55,-5.55) 84(-14.55,-5.85) 85(-14.55,-6.15) 86(-14.55,-6.45) 87(-14.55,-6.75) 88(-14.55,-7.05) 89(-14.55,-7.35) 90(-14.55,-7.65) 91(-14.55,-7.95) 92(-14.55,-8.25) 93(-14.55,-8.55) 94(-14.55,-8.85) 95(-14.55,-9.15) 96(-14.55,-9.45) 97(-14.55,-9.75) 98(-14.55,-10.05) 99(-14.55,-10.35) 100(-14.55,-10.65) 101(-14.55,-10.95) 102(-14.55,-11.25) 103(-14.55,-11.55) 104(-14.55,-11.85) 105(-14.55,-12.15) 106(-14.55,-12.45) 107(-14.55,-12.75) 108(-14.55,-13.05) 109(-14.55,-13.35) 110(-14.55,-13.65) 111(-14.55,-13.95) 112(-14.55,-14.25) 113(-14.55,-14.55) 114(-14.55,-14.85) 115(-14.55,-15.15) 116(-14.55,-15.45) 117(-14.55,-15.75) 118(-14.55,-16.05) 119(-14.55,-16.35) 120(-14.55,-16.65) 121(-14.55,-16.95) 122(-14.55,-17.25) 123(-14.55,-17.55) 124(-14.55,-17.85) 125(-14.55,-18.15) 126(-14.55,-18.45) 127(-14.55,-18.75) 128(-14.55,-19.05) 217(14.55,-19.05) 218(14.55,-18.75) 219(14.55,-18.45) 220(14.55,-18.15) 221(14.55,-17.85) 222(14.55,-17.55) 223(14.55,-17.25) 224(14.55,-16.95) 225(14.55,-16.65) 226(14.55,-16.35) 227(14.55,-16.05) 228(14.55,-15.75) 229(14.55,-15.45) 230(14.55,-15.15) 231(14.55,-14.85) 232(14.55,-14.55) 233(14.55,-14.25) 234(14.55,-13.95) 235(14.55,-13.65) 236(14.55,-13.35) 237(14.55,-13.05) 238(14.55,-12.75) 239(14.55,-12.45) 240(14.55,-12.15) 241(14.55,-11.85) 242(14.55,-11.55) 243(14.55,-11.25) 244(14.55,-10.95) 245(14.55,-10.65) 246(14.55,-10.35) 247(14.55,-10.05) 248(14.55,-9.75) 249(14.55,-9.45) 250(14.55,-9.15) 251(14.55,-8.85) 252(14.55,-8.55) 253(14.55,-8.25) 254(14.55,-7.95) 255(14.55,-7.65) 256(14.55,-7.35) 257(14.55,-7.05) 258(14.55,-6.75) 259(14.55,-6.45) 260(14.55,-6.15) 261(14.55,-5.85) 262(14.55,-5.55) 263(14.55,-5.25) 264(14.55,-4.95) 265(14.55,-4.65) 266(14.55,-4.35) 267(14.55,-4.05) 268(14.55,-3.75) 269(14.55,-3.45) 270(14.55,-3.15) 271(14.55,-2.85) 272(14.55,-2.55) 273(14.55,-2.25) 274(14.55,-1.95) 275(14.55,-1.65) 276(14.55,-1.35) 277(14.55,-1.05) 278(14.55,-0.75) 279(14.55,-0.45) 280(14.55,-0.15) 281(14.55,0.15) 282(14.55,0.45) 283(14.55,0.75) 284(14.55,1.05) 285(14.55,1.35) 286(14.55,1.65) 287(14.55,1.95) 288(14.55,2.25) 289(14.55,2.55) 290(14.55,2.85) 291(14.55,3.15) 292(14.55,3.45) 293(14.55,3.75) 294(14.55,4.05) 295(14.55,4.35) 296(14.55,4.65) 297(14.55,4.95) 298(14.55,5.25) 299(14.55,5.55) 300(14.55,5.85) 301(14.55,6.15) 302(14.55,6.45) 303(14.55,6.75) 304(14.55,7.05) 305(14.55,7.35) 306(14.55,7.65) 307(14.55,7.95) 308(14.55,8.25) 309(14.55,8.55) 310(14.55,8.85) 311(14.55,9.15) 312(14.55,9.45) 313(14.55,9.75) 314(14.55,10.05) 315(14.55,10.35) 316(14.55,10.65) 317(14.55,10.95) 318(14.55,11.25) 319(14.55,11.55) 320(14.55,11.85) 321(14.55,12.15) 322(14.55,12.45) 323(14.55,12.75) 324(14.55,13.05) 325(14.55,13.35) 326(14.55,13.65) 327(14.55,13.95) 328(14.55,14.25) 329(14.55,14.55) 330(14.55,14.85) 331(14.55,15.15) 332(14.55,15.45) 333(14.55,15.75) 334(14.55,16.05) 335(14.55,16.35) 336(14.55,16.65) 337(14.55,16.95) 338(14.55,17.25) 339(14.55,17.55) 340(14.55,17.85) 341(14.55,18.15) 342(14.55,18.45) 343(14.55,18.75) 344(14.55,19.05)
  oval 0.18x1.8 smd: 129(-13.05,-20.55) 130(-12.75,-20.55) 131(-12.45,-20.55) 132(-12.15,-20.55) 133(-11.85,-20.55) 134(-11.55,-20.55) 135(-11.25,-20.55) 136(-10.95,-20.55) 137(-10.65,-20.55) 138(-10.35,-20.55) 139(-10.05,-20.55) 140(-9.75,-20.55) 141(-9.45,-20.55) 142(-9.15,-20.55) 143(-8.85,-20.55) 144(-8.55,-20.55) 145(-8.25,-20.55) 146(-7.95,-20.55) 147(-7.65,-20.55) 148(-7.35,-20.55) 149(-7.05,-20.55) 150(-6.75,-20.55) 151(-6.45,-20.55) 152(-6.15,-20.55) 153(-5.85,-20.55) 154(-5.55,-20.55) 155(-5.25,-20.55) 156(-4.95,-20.55) 157(-4.65,-20.55) 158(-4.35,-20.55) 159(-4.05,-20.55) 160(-3.75,-20.55) 161(-3.45,-20.55) 162(-3.15,-20.55) 163(-2.85,-20.55) 164(-2.55,-20.55) 165(-2.25,-20.55) 166(-1.95,-20.55) 167(-1.65,-20.55) 168(-1.35,-20.55) 169(-1.05,-20.55) 170(-0.75,-20.55) 171(-0.45,-20.55) 172(-0.15,-20.55) 173(0.15,-20.55) 174(0.45,-20.55) 175(0.75,-20.55) 176(1.05,-20.55) 177(1.35,-20.55) 178(1.65,-20.55) 179(1.95,-20.55) 180(2.25,-20.55) 181(2.55,-20.55) 182(2.85,-20.55) 183(3.15,-20.55) 184(3.45,-20.55) 185(3.75,-20.55) 186(4.05,-20.55) 187(4.35,-20.55) 188(4.65,-20.55) 189(4.95,-20.55) 190(5.25,-20.55) 191(5.55,-20.55) 192(5.85,-20.55) 193(6.15,-20.55) 194(6.45,-20.55) 195(6.75,-20.55) 196(7.05,-20.55) 197(7.35,-20.55) 198(7.65,-20.55) 199(7.95,-20.55) 200(8.25,-20.55) 201(8.55,-20.55) 202(8.85,-20.55) 203(9.15,-20.55) 204(9.45,-20.55) 205(9.75,-20.55) 206(10.05,-20.55) 207(10.35,-20.55) 208(10.65,-20.55) 209(10.95,-20.55) 210(11.25,-20.55) 211(11.55,-20.55) 212(11.85,-20.55) 213(12.15,-20.55) 214(12.45,-20.55) 215(12.75,-20.55) 216(13.05,-20.55) 345(13.05,20.55) 346(12.75,20.55) 347(12.45,20.55) 348(12.15,20.55) 349(11.85,20.55) 350(11.55,20.55) 351(11.25,20.55) 352(10.95,20.55) 353(10.65,20.55) 354(10.35,20.55) 355(10.05,20.55) 356(9.75,20.55) 357(9.45,20.55) 358(9.15,20.55) 359(8.85,20.55) 360(8.55,20.55) 361(8.25,20.55) 362(7.95,20.55) 363(7.65,20.55) 364(7.35,20.55) 365(7.05,20.55) 366(6.75,20.55) 367(6.45,20.55) 368(6.15,20.55) 369(5.85,20.55) 370(5.55,20.55) 371(5.25,20.55) 372(4.95,20.55) 373(4.65,20.55) 374(4.35,20.55) 375(4.05,20.55) 376(3.75,20.55) 377(3.45,20.55) 378(3.15,20.55) 379(2.85,20.55) 380(2.55,20.55) 381(2.25,20.55) 382(1.95,20.55) 383(1.65,20.55) 384(1.35,20.55) 385(1.05,20.55) 386(0.75,20.55) 387(0.45,20.55) 388(0.15,20.55) 389(-0.15,20.55) 390(-0.45,20.55) 391(-0.75,20.55) 392(-1.05,20.55) 393(-1.35,20.55) 394(-1.65,20.55) 395(-1.95,20.55) 396(-2.25,20.55) 397(-2.55,20.55) 398(-2.85,20.55) 399(-3.15,20.55) 400(-3.45,20.55) 401(-3.75,20.55) 402(-4.05,20.55) 403(-4.35,20.55) 404(-4.65,20.55) 405(-4.95,20.55) 406(-5.25,20.55) 407(-5.55,20.55) 408(-5.85,20.55) 409(-6.15,20.55) 410(-6.45,20.55) 411(-6.75,20.55) 412(-7.05,20.55) 413(-7.35,20.55) 414(-7.65,20.55) 415(-7.95,20.55) 416(-8.25,20.55) 417(-8.55,20.55) 418(-8.85,20.55) 419(-9.15,20.55) 420(-9.45,20.55) 421(-9.75,20.55) 422(-10.05,20.55) 423(-10.35,20.55) 424(-10.65,20.55) 425(-10.95,20.55) 426(-11.25,20.55) 427(-11.55,20.55) 428(-11.85,20.55) 429(-12.15,20.55) 430(-12.45,20.55) 431(-12.75,20.55) 432(-13.05,20.55)
Top Overlay:
  circle w0.25: c-14.55,19.69 r0.125
  circle w0.6: c-12.25,18.25 r0.3
  lines w0.2: -13.25,-19.25 -13.25,19.25 13.25,19.25 13.25,-19.25 -13.25,-19.25
Mechanical 13:
  circle w0.1: c-13.1,19.1 r0.5
  lines w0.1: -14,-20 -14,20 14,20 14,-20 -14,-20
Mechanical 15:
  lines w0.1: -0.5,0 0.5,0 ; 0,-0.5 0,0.5 ; -15.7,-21.7 -15.7,21.7 15.7,21.7 15.7,-21.7 -15.7,-21.7
3D body: height 4.2, standoff 0, extent -14,-20 14,20

## SQFP30P3000X4200-440N [mm] "Shrink QFP, 440-Leads, Body 40x28 mm, Pitch 0.3mm, IPC Medium Density"
height 4.2
pads (440):
  oval 1.8x0.18 smd: 1(-14.55,19.35) 2(-14.55,19.05) 3(-14.55,18.75) 4(-14.55,18.45) 5(-14.55,18.15) 6(-14.55,17.85) 7(-14.55,17.55) 8(-14.55,17.25) 9(-14.55,16.95) 10(-14.55,16.65) 11(-14.55,16.35) 12(-14.55,16.05) 13(-14.55,15.75) 14(-14.55,15.45) 15(-14.55,15.15) 16(-14.55,14.85) 17(-14.55,14.55) 18(-14.55,14.25) 19(-14.55,13.95) 20(-14.55,13.65) 21(-14.55,13.35) 22(-14.55,13.05) 23(-14.55,12.75) 24(-14.55,12.45) 25(-14.55,12.15) 26(-14.55,11.85) 27(-14.55,11.55) 28(-14.55,11.25) 29(-14.55,10.95) 30(-14.55,10.65) 31(-14.55,10.35) 32(-14.55,10.05) 33(-14.55,9.75) 34(-14.55,9.45) 35(-14.55,9.15) 36(-14.55,8.85) 37(-14.55,8.55) 38(-14.55,8.25) 39(-14.55,7.95) 40(-14.55,7.65) 41(-14.55,7.35) 42(-14.55,7.05) 43(-14.55,6.75) 44(-14.55,6.45) 45(-14.55,6.15) 46(-14.55,5.85) 47(-14.55,5.55) 48(-14.55,5.25) 49(-14.55,4.95) 50(-14.55,4.65) 51(-14.55,4.35) 52(-14.55,4.05) 53(-14.55,3.75) 54(-14.55,3.45) 55(-14.55,3.15) 56(-14.55,2.85) 57(-14.55,2.55) 58(-14.55,2.25) 59(-14.55,1.95) 60(-14.55,1.65) 61(-14.55,1.35) 62(-14.55,1.05) 63(-14.55,0.75) 64(-14.55,0.45) 65(-14.55,0.15) 66(-14.55,-0.15) 67(-14.55,-0.45) 68(-14.55,-0.75) 69(-14.55,-1.05) 70(-14.55,-1.35) 71(-14.55,-1.65) 72(-14.55,-1.95) 73(-14.55,-2.25) 74(-14.55,-2.55) 75(-14.55,-2.85) 76(-14.55,-3.15) 77(-14.55,-3.45) 78(-14.55,-3.75) 79(-14.55,-4.05) 80(-14.55,-4.35) 81(-14.55,-4.65) 82(-14.55,-4.95) 83(-14.55,-5.25) 84(-14.55,-5.55) 85(-14.55,-5.85) 86(-14.55,-6.15) 87(-14.55,-6.45) 88(-14.55,-6.75) 89(-14.55,-7.05) 90(-14.55,-7.35) 91(-14.55,-7.65) 92(-14.55,-7.95) 93(-14.55,-8.25) 94(-14.55,-8.55) 95(-14.55,-8.85) 96(-14.55,-9.15) 97(-14.55,-9.45) 98(-14.55,-9.75) 99(-14.55,-10.05) 100(-14.55,-10.35) 101(-14.55,-10.65) 102(-14.55,-10.95) 103(-14.55,-11.25) 104(-14.55,-11.55) 105(-14.55,-11.85) 106(-14.55,-12.15) 107(-14.55,-12.45) 108(-14.55,-12.75) 109(-14.55,-13.05) 110(-14.55,-13.35) 111(-14.55,-13.65) 112(-14.55,-13.95) 113(-14.55,-14.25) 114(-14.55,-14.55) 115(-14.55,-14.85) 116(-14.55,-15.15) 117(-14.55,-15.45) 118(-14.55,-15.75) 119(-14.55,-16.05) 120(-14.55,-16.35) 121(-14.55,-16.65) 122(-14.55,-16.95) 123(-14.55,-17.25) 124(-14.55,-17.55) 125(-14.55,-17.85) 126(-14.55,-18.15) 127(-14.55,-18.45) 128(-14.55,-18.75) 129(-14.55,-19.05) 130(-14.55,-19.35) 221(14.55,-19.35) 222(14.55,-19.05) 223(14.55,-18.75) 224(14.55,-18.45) 225(14.55,-18.15) 226(14.55,-17.85) 227(14.55,-17.55) 228(14.55,-17.25) 229(14.55,-16.95) 230(14.55,-16.65) 231(14.55,-16.35) 232(14.55,-16.05) 233(14.55,-15.75) 234(14.55,-15.45) 235(14.55,-15.15) 236(14.55,-14.85) 237(14.55,-14.55) 238(14.55,-14.25) 239(14.55,-13.95) 240(14.55,-13.65) 241(14.55,-13.35) 242(14.55,-13.05) 243(14.55,-12.75) 244(14.55,-12.45) 245(14.55,-12.15) 246(14.55,-11.85) 247(14.55,-11.55) 248(14.55,-11.25) 249(14.55,-10.95) 250(14.55,-10.65) 251(14.55,-10.35) 252(14.55,-10.05) 253(14.55,-9.75) 254(14.55,-9.45) 255(14.55,-9.15) 256(14.55,-8.85) 257(14.55,-8.55) 258(14.55,-8.25) 259(14.55,-7.95) 260(14.55,-7.65) 261(14.55,-7.35) 262(14.55,-7.05) 263(14.55,-6.75) 264(14.55,-6.45) 265(14.55,-6.15) 266(14.55,-5.85) 267(14.55,-5.55) 268(14.55,-5.25) 269(14.55,-4.95) 270(14.55,-4.65) 271(14.55,-4.35) 272(14.55,-4.05) 273(14.55,-3.75) 274(14.55,-3.45) 275(14.55,-3.15) 276(14.55,-2.85) 277(14.55,-2.55) 278(14.55,-2.25) 279(14.55,-1.95) 280(14.55,-1.65) 281(14.55,-1.35) 282(14.55,-1.05) 283(14.55,-0.75) 284(14.55,-0.45) 285(14.55,-0.15) 286(14.55,0.15) 287(14.55,0.45) 288(14.55,0.75) 289(14.55,1.05) 290(14.55,1.35) 291(14.55,1.65) 292(14.55,1.95) 293(14.55,2.25) 294(14.55,2.55) 295(14.55,2.85) 296(14.55,3.15) 297(14.55,3.45) 298(14.55,3.75) 299(14.55,4.05) 300(14.55,4.35) 301(14.55,4.65) 302(14.55,4.95) 303(14.55,5.25) 304(14.55,5.55) 305(14.55,5.85) 306(14.55,6.15) 307(14.55,6.45) 308(14.55,6.75) 309(14.55,7.05) 310(14.55,7.35) 311(14.55,7.65) 312(14.55,7.95) 313(14.55,8.25) 314(14.55,8.55) 315(14.55,8.85) 316(14.55,9.15) 317(14.55,9.45) 318(14.55,9.75) 319(14.55,10.05) 320(14.55,10.35) 321(14.55,10.65) 322(14.55,10.95) 323(14.55,11.25) 324(14.55,11.55) 325(14.55,11.85) 326(14.55,12.15) 327(14.55,12.45) 328(14.55,12.75) 329(14.55,13.05) 330(14.55,13.35) 331(14.55,13.65) 332(14.55,13.95) 333(14.55,14.25) 334(14.55,14.55) 335(14.55,14.85) 336(14.55,15.15) 337(14.55,15.45) 338(14.55,15.75) 339(14.55,16.05) 340(14.55,16.35) 341(14.55,16.65) 342(14.55,16.95) 343(14.55,17.25) 344(14.55,17.55) 345(14.55,17.85) 346(14.55,18.15) 347(14.55,18.45) 348(14.55,18.75) 349(14.55,19.05) 350(14.55,19.35)
  oval 0.18x1.8 smd: 131(-13.35,-20.55) 132(-13.05,-20.55) 133(-12.75,-20.55) 134(-12.45,-20.55) 135(-12.15,-20.55) 136(-11.85,-20.55) 137(-11.55,-20.55) 138(-11.25,-20.55) 139(-10.95,-20.55) 140(-10.65,-20.55) 141(-10.35,-20.55) 142(-10.05,-20.55) 143(-9.75,-20.55) 144(-9.45,-20.55) 145(-9.15,-20.55) 146(-8.85,-20.55) 147(-8.55,-20.55) 148(-8.25,-20.55) 149(-7.95,-20.55) 150(-7.65,-20.55) 151(-7.35,-20.55) 152(-7.05,-20.55) 153(-6.75,-20.55) 154(-6.45,-20.55) 155(-6.15,-20.55) 156(-5.85,-20.55) 157(-5.55,-20.55) 158(-5.25,-20.55) 159(-4.95,-20.55) 160(-4.65,-20.55) 161(-4.35,-20.55) 162(-4.05,-20.55) 163(-3.75,-20.55) 164(-3.45,-20.55) 165(-3.15,-20.55) 166(-2.85,-20.55) 167(-2.55,-20.55) 168(-2.25,-20.55) 169(-1.95,-20.55) 170(-1.65,-20.55) 171(-1.35,-20.55) 172(-1.05,-20.55) 173(-0.75,-20.55) 174(-0.45,-20.55) 175(-0.15,-20.55) 176(0.15,-20.55) 177(0.45,-20.55) 178(0.75,-20.55) 179(1.05,-20.55) 180(1.35,-20.55) 181(1.65,-20.55) 182(1.95,-20.55) 183(2.25,-20.55) 184(2.55,-20.55) 185(2.85,-20.55) 186(3.15,-20.55) 187(3.45,-20.55) 188(3.75,-20.55) 189(4.05,-20.55) 190(4.35,-20.55) 191(4.65,-20.55) 192(4.95,-20.55) 193(5.25,-20.55) 194(5.55,-20.55) 195(5.85,-20.55) 196(6.15,-20.55) 197(6.45,-20.55) 198(6.75,-20.55) 199(7.05,-20.55) 200(7.35,-20.55) 201(7.65,-20.55) 202(7.95,-20.55) 203(8.25,-20.55) 204(8.55,-20.55) 205(8.85,-20.55) 206(9.15,-20.55) 207(9.45,-20.55) 208(9.75,-20.55) 209(10.05,-20.55) 210(10.35,-20.55) 211(10.65,-20.55) 212(10.95,-20.55) 213(11.25,-20.55) 214(11.55,-20.55) 215(11.85,-20.55) 216(12.15,-20.55) 217(12.45,-20.55) 218(12.75,-20.55) 219(13.05,-20.55) 220(13.35,-20.55) 351(13.35,20.55) 352(13.05,20.55) 353(12.75,20.55) 354(12.45,20.55) 355(12.15,20.55) 356(11.85,20.55) 357(11.55,20.55) 358(11.25,20.55) 359(10.95,20.55) 360(10.65,20.55) 361(10.35,20.55) 362(10.05,20.55) 363(9.75,20.55) 364(9.45,20.55) 365(9.15,20.55) 366(8.85,20.55) 367(8.55,20.55) 368(8.25,20.55) 369(7.95,20.55) 370(7.65,20.55) 371(7.35,20.55) 372(7.05,20.55) 373(6.75,20.55) 374(6.45,20.55) 375(6.15,20.55) 376(5.85,20.55) 377(5.55,20.55) 378(5.25,20.55) 379(4.95,20.55) 380(4.65,20.55) 381(4.35,20.55) 382(4.05,20.55) 383(3.75,20.55) 384(3.45,20.55) 385(3.15,20.55) 386(2.85,20.55) 387(2.55,20.55) 388(2.25,20.55) 389(1.95,20.55) 390(1.65,20.55) 391(1.35,20.55) 392(1.05,20.55) 393(0.75,20.55) 394(0.45,20.55) 395(0.15,20.55) 396(-0.15,20.55) 397(-0.45,20.55) 398(-0.75,20.55) 399(-1.05,20.55) 400(-1.35,20.55) 401(-1.65,20.55) 402(-1.95,20.55) 403(-2.25,20.55) 404(-2.55,20.55) 405(-2.85,20.55) 406(-3.15,20.55) 407(-3.45,20.55) 408(-3.75,20.55) 409(-4.05,20.55) 410(-4.35,20.55) 411(-4.65,20.55) 412(-4.95,20.55) 413(-5.25,20.55) 414(-5.55,20.55) 415(-5.85,20.55) 416(-6.15,20.55) 417(-6.45,20.55) 418(-6.75,20.55) 419(-7.05,20.55) 420(-7.35,20.55) 421(-7.65,20.55) 422(-7.95,20.55) 423(-8.25,20.55) 424(-8.55,20.55) 425(-8.85,20.55) 426(-9.15,20.55) 427(-9.45,20.55) 428(-9.75,20.55) 429(-10.05,20.55) 430(-10.35,20.55) 431(-10.65,20.55) 432(-10.95,20.55) 433(-11.25,20.55) 434(-11.55,20.55) 435(-11.85,20.55) 436(-12.15,20.55) 437(-12.45,20.55) 438(-12.75,20.55) 439(-13.05,20.55) 440(-13.35,20.55)
Top Overlay:
  circle w0.25: c-14.55,19.99 r0.125
  circle w0.6: c-12.25,18.25 r0.3
  lines w0.2: -13.25,-19.25 -13.25,19.25 13.25,19.25 13.25,-19.25 -13.25,-19.25
Mechanical 13:
  circle w0.1: c-13.1,19.1 r0.5
  lines w0.1: -14,-20 -14,20 14,20 14,-20 -14,-20
Mechanical 15:
  lines w0.1: -0.5,0 0.5,0 ; 0,-0.5 0,0.5 ; -15.7,-21.7 -15.7,21.7 15.7,21.7 15.7,-21.7 -15.7,-21.7
3D body: height 4.2, standoff 0, extent -14,-20 14,20